# Altium footprint library SMD_DIODE.PcbLib: 2 footprints
Each footprint in its own frame and in the unit in brackets; x right, y up, seen from the top. Pads: shape width x height; smd on the part's side, far side on the other; paste and mask are expansions set on the pad; w line width, h text height; cw(c..) or ccw(c..) is an arc to the next point about the centre after c.
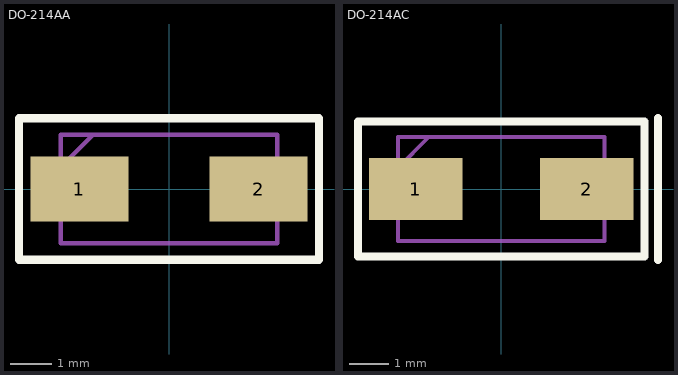
[diagram p0: the footprints below, top view; thin cyan lines are the x and y axes]

## DO-214AA [mm]
pads (2):
  rect 2.35x1.55 smd: 1(-2.15,0) 2(2.15,0)
Top Overlay:
  lines w0.2: -3.6,-1.7 3.6,-1.7 3.6,1.7 -3.6,1.7 -3.6,-1.7
Mechanical 13:
  lines w0.1: -2.598,0.528 -1.822,1.302 ; -2.598,-1.302 -2.598,1.302 2.598,1.302 2.598,-1.302 -2.598,-1.302
Mechanical 15:
  lines w0.05: -3.575,-1.71 -3.575,1.71 3.575,1.71 3.575,-1.71 -3.575,-1.71
3D body "B220A-13-F.stp": height 2.3, standoff 0, extent -2.598,-1.302 2.598,1.302

## DO-214AC [mm]
pads (2):
  rect 2.35x1.55 smd: 1(-2.15,0) 2(2.15,0)
Top Overlay:
  lines w0.2: 3.937,-1.778 3.937,1.778 ; -3.6,-1.7 3.6,-1.7 3.6,1.7 -3.6,1.7 -3.6,-1.7
Mechanical 13:
  lines w0.1: -2.598,0.528 -1.822,1.302 ; -2.598,-1.302 -2.598,1.302 2.598,1.302 2.598,-1.302 -2.598,-1.302
Mechanical 15:
  lines w0.05: -3.575,-1.71 -3.575,1.71 3.575,1.71 3.575,-1.71 -3.575,-1.71
3D body "B220A-13-F.stp": height 2.3, standoff 0, extent -2.598,-1.302 2.598,1.302